# Altium schematic symbol library PTN3460.SchLib: 1 symbol
Pins are listed as number, name and electrical type; pins without a type are passive.

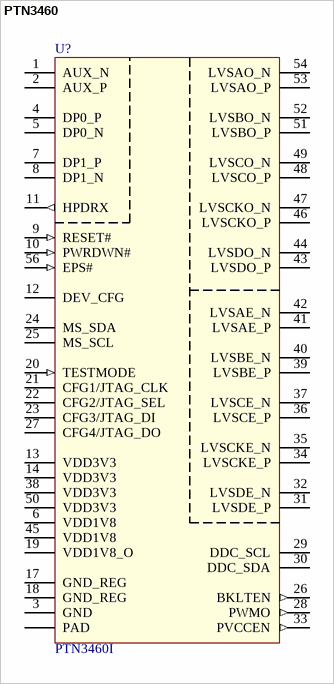
[diagram p0: symbol PTN3460]

## PTN3460
designator U?, comment PTN3460I
eDP to LVDS bridge for industrial and embedded applications; value: PTN3460I
pins: 1 AUX_N, 2 AUX_P, 3 GND (power), 4 DP0_P, 5 DP0_N, 6 VDD1V8 (power), 7 DP1_P, 8 DP1_N, 9 RESET# (in), 10 PWRDWN# (in), 11 HPDRX (out), 12 DEV_CFG, 13 VDD3V3 (power), 14 VDD3V3 (power), 17 GND_REG (power), 18 GND_REG (power), 19 VDD1V8_O, 20 TESTMODE (in), 21 CFG1/JTAG_CLK, 22 CFG2/JTAG_SEL, 23 CFG3/JTAG_DI, 24 MS_SDA, 25 MS_SCL, 26 BKLTEN (out), 27 CFG4/JTAG_DO, 28 PWMO (out), 29 DDC_SCL, 30 DDC_SDA, 31 LVSDE_P, 32 LVSDE_N, 33 PVCCEN (out), 34 LVSCKE_P, 35 LVSCKE_N, 36 LVSCE_P, 37 LVSCE_N, 38 VDD3V3 (power), 39 LVSBE_P, 40 LVSBE_N, 41 LVSAE_P, 42 LVSAE_N, 43 LVSDO_P, 44 LVSDO_N, 45 VDD1V8 (power), 46 LVSCKO_P, 47 LVSCKO_N, 48 LVSCO_P, 49 LVSCO_N, 50 VDD3V3 (power), 51 LVSBO_P, 52 LVSBO_N, 53 LVSAO_P, 54 LVSAO_N, 56 EPS# (in), PAD